# Altium schematic symbol library Turck WKC-WSC.Schlib: 1 symbol
Pins are listed as number, name and electrical type; pins without a type are passive.

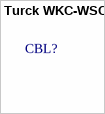
[diagram p0: symbol Turck WKC-WSC]

## Turck WKC-WSC
designator CBL?  (mechanical)